# EAGLE library part AD8465 (library tcspc_lib)
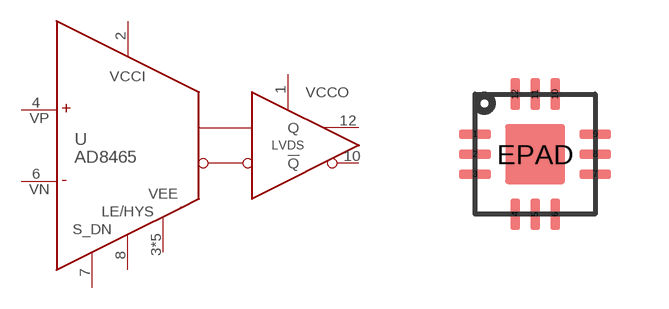
[diagram p9: symbol with the pads of LFCSP-12; footprint LFCSP-12]

Designator prefix U

## AD8465  [LFCSP-12]
1  VCCO
2  VCCI
3  VEE
4  VP
5  VEE
6  VN
7  SDN
8  LE/HYS
9  VEE
10  !Q
11  VEE
12  Q
EPAD  VEE

## Footprint LFCSP-12 (pad centres in mm)
smd 0.8 x 0.23: 1 -1.5,0.5; 2 -1.5,0; 3 -1.5,-0.5; 7 1.5,-0.5; 8 1.5,0; 9 1.5,0.5
smd 0.23 x 0.8: 4 -0.5,-1.5; 5 0,-1.5; 6 0.5,-1.5; 10 0.5,1.5; 11 0,1.5; 12 -0.5,1.5
smd 1.5 x 1.5: EPAD 0,0